# Altium schematic symbol library RK7002BMT116.SchLib: 2 symbols
Pins are listed as number, name and electrical type; pins without a type are passive.

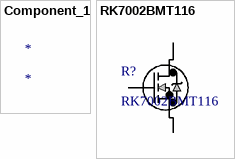
[diagram p0: symbols Component_1 to RK7002BMT116]

## Component_1
designator *

## RK7002BMT116
designator R?
No Description Available; Mfr_Name: ROHM Semiconductor; Copyright: Copyright (C) 2022 Ultra Librarian. All rights reserved.; Manufacturer_Part_Number: RK7002BMT116; Digi-Key_Part_Number_1: RK7002BMT116CT-ND; Digi-Key_Part_Number_2: RK7002BMT116DKR-ND; Digi-Key_Part_Number_3: RK7002BMT116TR-ND; RefDes: RefDes; Type: DEV
footprint TRANS_RK7002BMHZG_ROM
pins: 1 2, 2 1, 3